# EAGLE library part GSM-FONA-ADAFRUIT1946 (library BOBs)
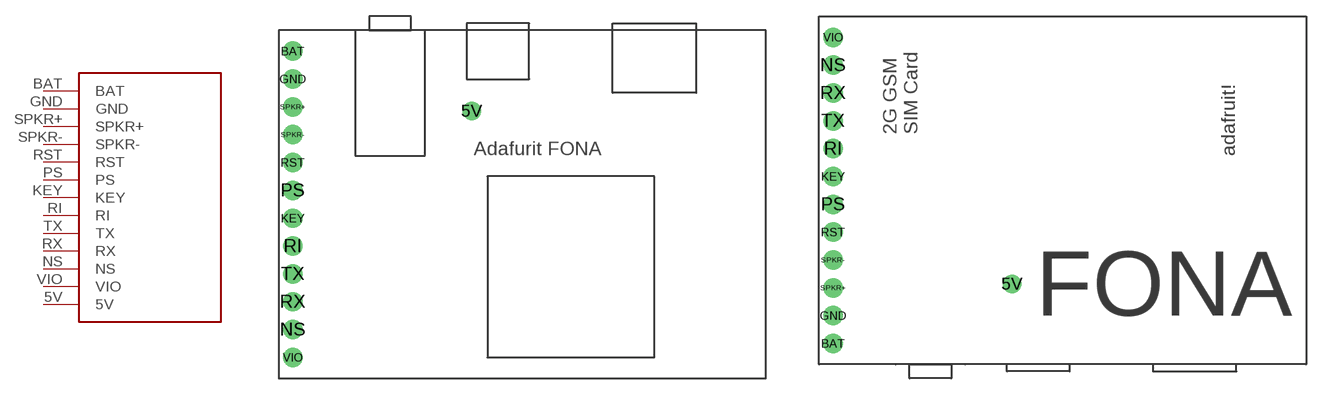
[diagram p10: symbol with the pads of GSM-FONA-ADAFRUIT1946; footprints GSM-FONA-ADAFRUIT1946, GSM-FONA-ADAFRUIT1946-UPSIDEDOWN]

Designator prefix -

## GSM-FONA-ADAFRUIT1946-BOB (DIST: Adafruit; DISTPN: 1946)  [GSM-FONA-ADAFRUIT1946]
5V  5V
BAT  BAT
GND  GND
KEY  KEY
NS  NS
PS  PS
RI  RI
RST  RST
RX  RX
SPKR+  SPKR+
SPKR-  SPKR-
TX  TX
VIO  VIO

## GSM-FONA-ADAFRUIT1946-UPSIDEDOWN-BOB (DIST: Adafruit; DISTPN: 1946)  [GSM-FONA-ADAFRUIT1946-UPSIDEDOWN]
Pads as for GSM-FONA-ADAFRUIT1946

## Footprint GSM-FONA-ADAFRUIT1946 (pad centres in mm)
drill 1.016 pad 1.676: 5V 17.6,24.4
drill 1.016 pad 1.778: BAT 1.27,29.845; GND 1.27,27.305; KEY 1.27,14.605; NS 1.27,4.445; PS 1.27,17.145; RI 1.27,12.065; RST 1.27,19.685; RX 1.27,6.985; SPKR+ 1.27,24.765; SPKR- 1.27,22.225; TX 1.27,9.525; VIO 1.27,1.905

## Footprint GSM-FONA-ADAFRUIT1946-UPSIDEDOWN (pad centres in mm)
drill 1.016 pad 1.676: 5V 17.6,7.35
drill 1.016 pad 1.778: BAT 1.27,1.905; GND 1.27,4.445; KEY 1.27,17.145; NS 1.27,27.305; PS 1.27,14.605; RI 1.27,19.685; RST 1.27,12.065; RX 1.27,24.765; SPKR+ 1.27,6.985; SPKR- 1.27,9.525; TX 1.27,22.225; VIO 1.27,29.845